# Altium integrated library Linear Technology Power Management Power Control.IntLib: 661 symbols (part 4 of 43)
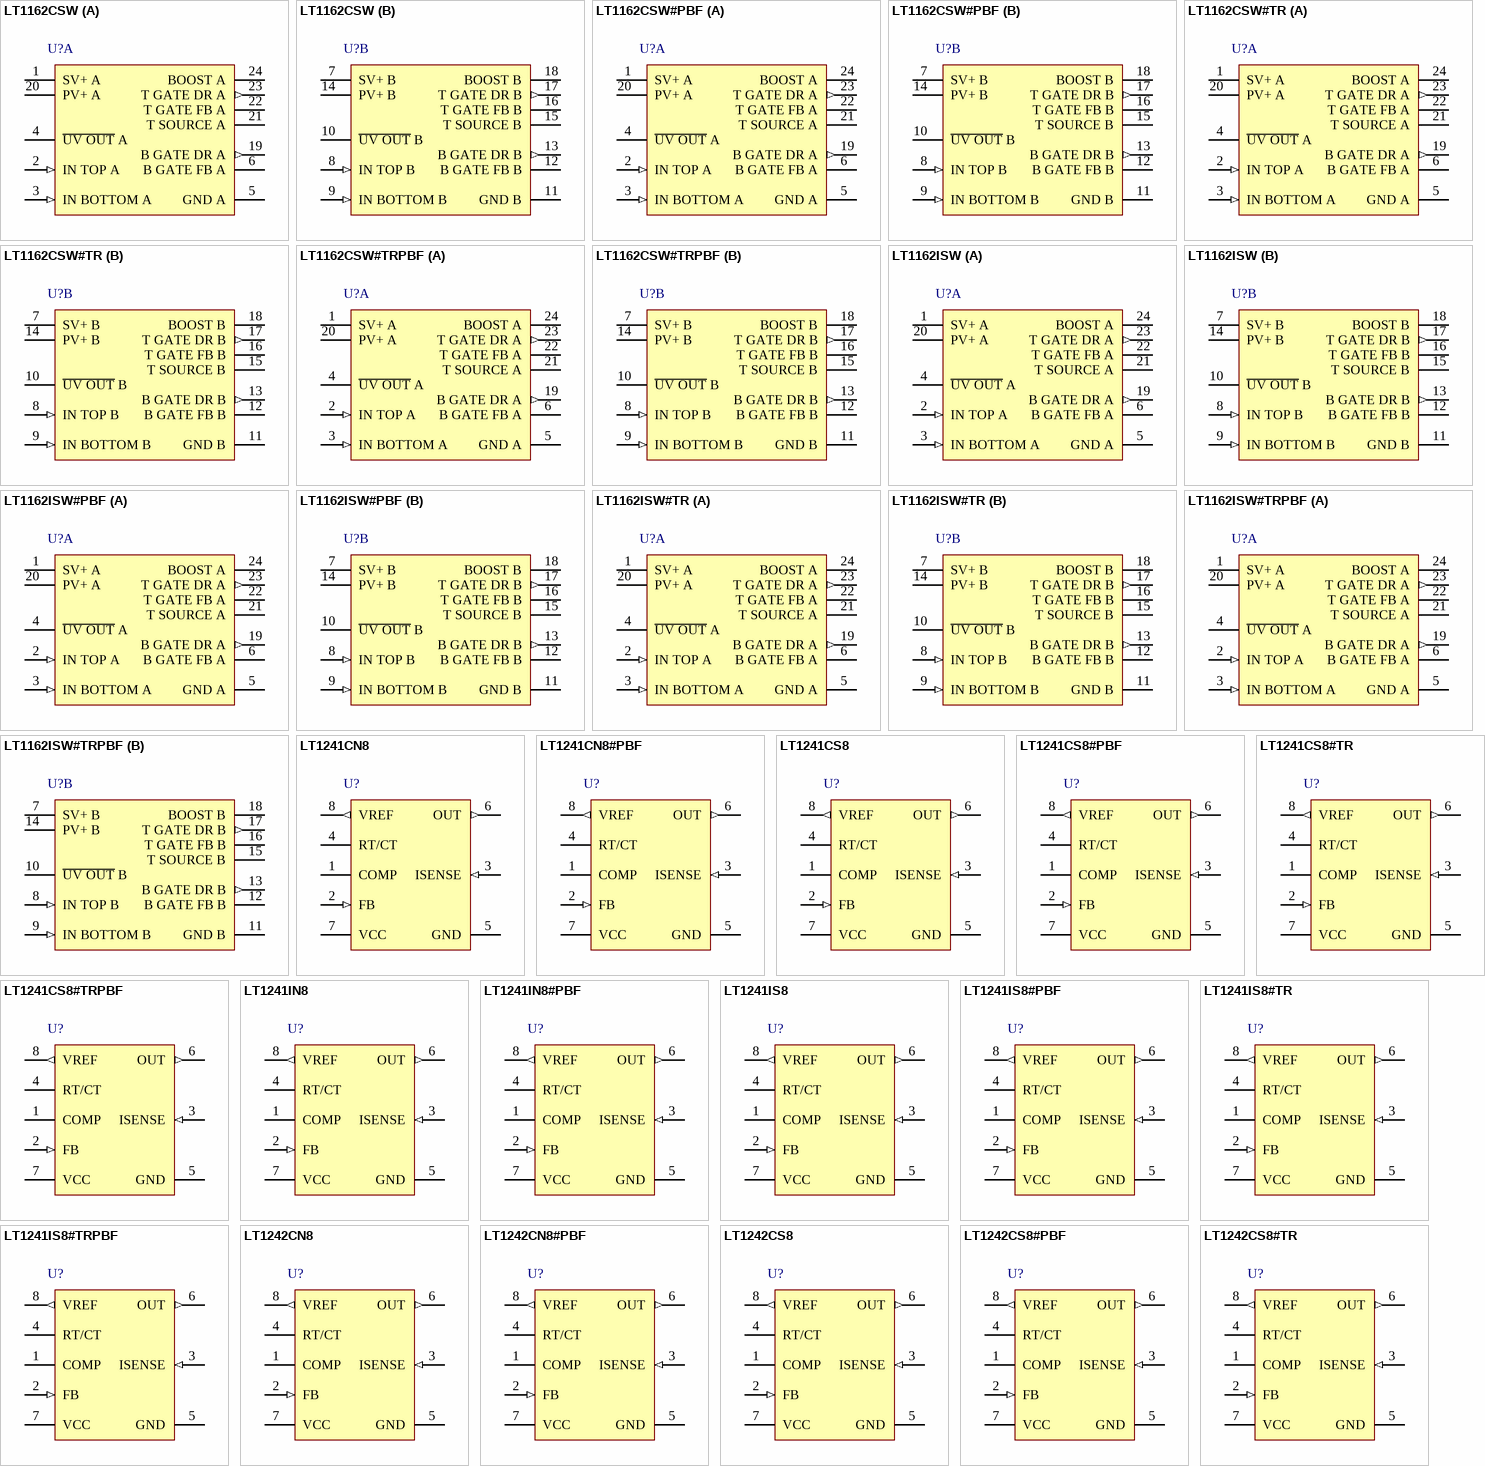
[diagram p22: symbols LT1162CSW to LT1242CS8#TR]

## LT1162ISW#PBF
designator U?
Input UV Lockout, High Side Gate Drive UV Lockout, 8 to 60 V Vin, 24-pin SOIC (SW-24), -40 to 85 degC, Pb-Free; Manufacturer: Linear Technology; PartNumber: LT1162ISW#PBF; DatasheetVersion: Rev. B; PackageVersion: Jun-10; PackageReference: SW-24; PackageDescription: 24-Pin Plastic Small Outline, Body 15.395 x 7.493 mm, Pitch 1.27 mm; Supplier 1: Digi-Key; Supplier Part Number 1: LT1162ISW#PBF-ND; Supplier 2: Newark; Supplier Part Number 2: 57M2281; RoHS: TRUE; Mounting Technology: Surface Mount; ComponentLink1Description: Manufacturer URL; ComponentLink1URL: http://www.linear.com/; ComponentLink2Description: Datasheet; ComponentLink2URL: http://cds.linear.com/docs/en/datasheet/11602fb.pdf; ComponentLink3Description: Package Specification; ComponentLink3URL: http://cds.linear.com/docs/Packaging/SO_24_05-08-1620.pdf
footprint LT-SW-24_N (SOIC, 24-Leads, Body 15.6x7.6mm, Pitch 1.27mm, IPC Medium Density)
footprint LT-SW-24_L (SOIC, 24-Leads, Body 15.6x7.6mm, Pitch 1.27mm, IPC High Density)
footprint LT-SW-24_M (SOIC, 24-Leads, Body 15.6x7.6mm, Pitch 1.27mm, IPC Low Density)
part A pins: 1 SV+ A (power) "Main Signal Supply. Must be closely decoupled to ground Pins 5 and 11.", 2 IN TOP A (in) "Top Driver Input. The Input Top is disabled when the Input Bottom is high. A 3 k input resistor followed by a 5 V internal clamp prevents saturation of the input transistors.", 3 IN BOTTOM A (in) "Bottom Driver Input. The Input Bottom is disabled when the Input Top is high. A 3 k input resistor followed by a 5 V internal clamp prevents satura- tion of the input transistors.", 4 ~{UV OUT} A (oc) "Undervoltage Output. Open collector NPN output which turns on when V+ drops below the undervoltage threshold.", 5 GND A (power) "Ground Connection.", 6 B GATE FB A "Bottom Gate Feedback. Must connect directly to the bottom power MOSFET gate. The top MOSFET turn-on is inhibited until Bottom Gate Feed- back pins have discharged to below 2.5 V.", 19 B GATE DR A (out) "Bottom Gate Drive. The high current drive point for the bottom MOSFET. When a gate resistor is used it is inserted between the Bottom Gate Drive pin and the gate of the MOSFET.", 20 PV+ A (power) "Bottom Driver Supply. Must be con- nected to the same supply as Pins 1 and 7.", 21 T SOURCE A "Top Driver Return. Connects to the top MOSFET source and the low side of the bootstrap capacitor.", 22 T GATE FB A "Top Gate Feedback. Must connect directly to the top power MOSFET gate. The bottom MOSFET turn-on is inhibited until V TGF  - V TSOURCE has discharged to below 2.9 V.", 23 T GATE DR A (out) "Top Gate Drive. The high current drive point for the top MOSFET. When a gate resistor is used it is inserted between the Top Gate Drive pin and the gate of the MOSFET.", 24 BOOST A "Top Driver Supply. Connects to the high side of the bootstrap capacitor."
part B pins: 7 SV+ B (power) "Main Signal Supply. Must be closely decoupled to ground Pins 5 and 11.", 8 IN TOP B (in) "Top Driver Input. The Input Top is disabled when the Input Bottom is high. A 3 k input resistor followed by a 5 V internal clamp prevents saturation of the input transistors.", 9 IN BOTTOM B (in) "Bottom Driver Input. The Input Bottom is disabled when the Input Top is high. A 3 k input resistor followed by a 5 V internal clamp prevents satura- tion of the input transistors.", 10 ~{UV OUT} B (oc) "Undervoltage Output. Open collector NPN output which turns on when V+ drops below the undervoltage threshold.", 11 GND B (power) "Ground Connection.", 12 B GATE FB B "Bottom Gate Feedback. Must connect directly to the bottom power MOSFET gate. The top MOSFET turn-on is inhibited until Bottom Gate Feed- back pins have discharged to below 2.5 V.", 13 B GATE DR B (out) "Bottom Gate Drive. The high current drive point for the bottom MOSFET. When a gate resistor is used it is inserted between the Bottom Gate Drive pin and the gate of the MOSFET.", 14 PV+ B (power) "Bottom Driver Supply. Must be con- nected to the same supply as Pins 1 and 7.", 15 T SOURCE B "Top Driver Return. Connects to the top MOSFET source and the low side of the bootstrap capacitor.", 16 T GATE FB B "Top Gate Feedback. Must connect directly to the top power MOSFET gate. The bottom MOSFET turn-on is inhibited until V TGF  - V TSOURCE has discharged to below 2.9 V.", 17 T GATE DR B (out) "Top Gate Drive. The high current drive point for the top MOSFET. When a gate resistor is used it is inserted between the Top Gate Drive pin and the gate of the MOSFET.", 18 BOOST B "Top Driver Supply. Connects to the high side of the bootstrap capacitor."

## LT1162ISW#TR
designator U?
Input UV Lockout, High Side Gate Drive UV Lockout, 8 to 60 V Vin, 24-pin SOIC (SW-24), -40 to 85 degC, Tape and Reel; Manufacturer: Linear Technology; PartNumber: LT1162ISW#TR; DatasheetVersion: Rev. B; PackageVersion: Jun-10; PackageReference: SW-24; PackageDescription: 24-Pin Plastic Small Outline, Body 15.395 x 7.493 mm, Pitch 1.27 mm; Supplier 1: Digi-Key; Supplier Part Number 1: LT1162ISW#TR-ND; Packing: Tape and Reel; RoHS: FALSE; Mounting Technology: Surface Mount; ComponentLink1Description: Manufacturer URL; ComponentLink1URL: http://www.linear.com/; ComponentLink2Description: Datasheet; ComponentLink2URL: http://cds.linear.com/docs/en/datasheet/11602fb.pdf; ComponentLink3Description: Package Specification; ComponentLink3URL: http://cds.linear.com/docs/Packaging/SO_24_05-08-1620.pdf
footprint LT-SW-24_N (SOIC, 24-Leads, Body 15.6x7.6mm, Pitch 1.27mm, IPC Medium Density)
footprint LT-SW-24_L (SOIC, 24-Leads, Body 15.6x7.6mm, Pitch 1.27mm, IPC High Density)
footprint LT-SW-24_M (SOIC, 24-Leads, Body 15.6x7.6mm, Pitch 1.27mm, IPC Low Density)
part A pins: 1 SV+ A (power) "Main Signal Supply. Must be closely decoupled to ground Pins 5 and 11.", 2 IN TOP A (in) "Top Driver Input. The Input Top is disabled when the Input Bottom is high. A 3 k input resistor followed by a 5 V internal clamp prevents saturation of the input transistors.", 3 IN BOTTOM A (in) "Bottom Driver Input. The Input Bottom is disabled when the Input Top is high. A 3 k input resistor followed by a 5 V internal clamp prevents satura- tion of the input transistors.", 4 ~{UV OUT} A (oc) "Undervoltage Output. Open collector NPN output which turns on when V+ drops below the undervoltage threshold.", 5 GND A (power) "Ground Connection.", 6 B GATE FB A "Bottom Gate Feedback. Must connect directly to the bottom power MOSFET gate. The top MOSFET turn-on is inhibited until Bottom Gate Feed- back pins have discharged to below 2.5 V.", 19 B GATE DR A (out) "Bottom Gate Drive. The high current drive point for the bottom MOSFET. When a gate resistor is used it is inserted between the Bottom Gate Drive pin and the gate of the MOSFET.", 20 PV+ A (power) "Bottom Driver Supply. Must be con- nected to the same supply as Pins 1 and 7.", 21 T SOURCE A "Top Driver Return. Connects to the top MOSFET source and the low side of the bootstrap capacitor.", 22 T GATE FB A "Top Gate Feedback. Must connect directly to the top power MOSFET gate. The bottom MOSFET turn-on is inhibited until V TGF  - V TSOURCE has discharged to below 2.9 V.", 23 T GATE DR A (out) "Top Gate Drive. The high current drive point for the top MOSFET. When a gate resistor is used it is inserted between the Top Gate Drive pin and the gate of the MOSFET.", 24 BOOST A "Top Driver Supply. Connects to the high side of the bootstrap capacitor."
part B pins: 7 SV+ B (power) "Main Signal Supply. Must be closely decoupled to ground Pins 5 and 11.", 8 IN TOP B (in) "Top Driver Input. The Input Top is disabled when the Input Bottom is high. A 3 k input resistor followed by a 5 V internal clamp prevents saturation of the input transistors.", 9 IN BOTTOM B (in) "Bottom Driver Input. The Input Bottom is disabled when the Input Top is high. A 3 k input resistor followed by a 5 V internal clamp prevents satura- tion of the input transistors.", 10 ~{UV OUT} B (oc) "Undervoltage Output. Open collector NPN output which turns on when V+ drops below the undervoltage threshold.", 11 GND B (power) "Ground Connection.", 12 B GATE FB B "Bottom Gate Feedback. Must connect directly to the bottom power MOSFET gate. The top MOSFET turn-on is inhibited until Bottom Gate Feed- back pins have discharged to below 2.5 V.", 13 B GATE DR B (out) "Bottom Gate Drive. The high current drive point for the bottom MOSFET. When a gate resistor is used it is inserted between the Bottom Gate Drive pin and the gate of the MOSFET.", 14 PV+ B (power) "Bottom Driver Supply. Must be con- nected to the same supply as Pins 1 and 7.", 15 T SOURCE B "Top Driver Return. Connects to the top MOSFET source and the low side of the bootstrap capacitor.", 16 T GATE FB B "Top Gate Feedback. Must connect directly to the top power MOSFET gate. The bottom MOSFET turn-on is inhibited until V TGF  - V TSOURCE has discharged to below 2.9 V.", 17 T GATE DR B (out) "Top Gate Drive. The high current drive point for the top MOSFET. When a gate resistor is used it is inserted between the Top Gate Drive pin and the gate of the MOSFET.", 18 BOOST B "Top Driver Supply. Connects to the high side of the bootstrap capacitor."

## LT1162ISW#TRPBF
designator U?
Input UV Lockout, High Side Gate Drive UV Lockout, 8 to 60 V Vin, 24-pin SOIC (SW-24), -40 to 85 degC, Pb-Free, Tape and Reel; Manufacturer: Linear Technology; PartNumber: LT1162ISW#TRPBF; DatasheetVersion: Rev. B; PackageVersion: Jun-10; PackageReference: SW-24; PackageDescription: 24-Pin Plastic Small Outline, Body 15.395 x 7.493 mm, Pitch 1.27 mm; Supplier 1: Digi-Key; Supplier Part Number 1: LT1162ISW#TRPBF-ND; Supplier 2: Newark; Supplier Part Number 2: 57M2283; Packing: Tape and Reel; RoHS: TRUE; Mounting Technology: Surface Mount; ComponentLink1Description: Manufacturer URL; ComponentLink1URL: http://www.linear.com/; ComponentLink2Description: Datasheet; ComponentLink2URL: http://cds.linear.com/docs/en/datasheet/11602fb.pdf; ComponentLink3Description: Package Specification; ComponentLink3URL: http://cds.linear.com/docs/Packaging/SO_24_05-08-1620.pdf
footprint LT-SW-24_N (SOIC, 24-Leads, Body 15.6x7.6mm, Pitch 1.27mm, IPC Medium Density)
footprint LT-SW-24_L (SOIC, 24-Leads, Body 15.6x7.6mm, Pitch 1.27mm, IPC High Density)
footprint LT-SW-24_M (SOIC, 24-Leads, Body 15.6x7.6mm, Pitch 1.27mm, IPC Low Density)
part A pins: 1 SV+ A (power) "Main Signal Supply. Must be closely decoupled to ground Pins 5 and 11.", 2 IN TOP A (in) "Top Driver Input. The Input Top is disabled when the Input Bottom is high. A 3 k input resistor followed by a 5 V internal clamp prevents saturation of the input transistors.", 3 IN BOTTOM A (in) "Bottom Driver Input. The Input Bottom is disabled when the Input Top is high. A 3 k input resistor followed by a 5 V internal clamp prevents satura- tion of the input transistors.", 4 ~{UV OUT} A (oc) "Undervoltage Output. Open collector NPN output which turns on when V+ drops below the undervoltage threshold.", 5 GND A (power) "Ground Connection.", 6 B GATE FB A "Bottom Gate Feedback. Must connect directly to the bottom power MOSFET gate. The top MOSFET turn-on is inhibited until Bottom Gate Feed- back pins have discharged to below 2.5 V.", 19 B GATE DR A (out) "Bottom Gate Drive. The high current drive point for the bottom MOSFET. When a gate resistor is used it is inserted between the Bottom Gate Drive pin and the gate of the MOSFET.", 20 PV+ A (power) "Bottom Driver Supply. Must be con- nected to the same supply as Pins 1 and 7.", 21 T SOURCE A "Top Driver Return. Connects to the top MOSFET source and the low side of the bootstrap capacitor.", 22 T GATE FB A "Top Gate Feedback. Must connect directly to the top power MOSFET gate. The bottom MOSFET turn-on is inhibited until V TGF  - V TSOURCE has discharged to below 2.9 V.", 23 T GATE DR A (out) "Top Gate Drive. The high current drive point for the top MOSFET. When a gate resistor is used it is inserted between the Top Gate Drive pin and the gate of the MOSFET.", 24 BOOST A "Top Driver Supply. Connects to the high side of the bootstrap capacitor."
part B pins: 7 SV+ B (power) "Main Signal Supply. Must be closely decoupled to ground Pins 5 and 11.", 8 IN TOP B (in) "Top Driver Input. The Input Top is disabled when the Input Bottom is high. A 3 k input resistor followed by a 5 V internal clamp prevents saturation of the input transistors.", 9 IN BOTTOM B (in) "Bottom Driver Input. The Input Bottom is disabled when the Input Top is high. A 3 k input resistor followed by a 5 V internal clamp prevents satura- tion of the input transistors.", 10 ~{UV OUT} B (oc) "Undervoltage Output. Open collector NPN output which turns on when V+ drops below the undervoltage threshold.", 11 GND B (power) "Ground Connection.", 12 B GATE FB B "Bottom Gate Feedback. Must connect directly to the bottom power MOSFET gate. The top MOSFET turn-on is inhibited until Bottom Gate Feed- back pins have discharged to below 2.5 V.", 13 B GATE DR B (out) "Bottom Gate Drive. The high current drive point for the bottom MOSFET. When a gate resistor is used it is inserted between the Bottom Gate Drive pin and the gate of the MOSFET.", 14 PV+ B (power) "Bottom Driver Supply. Must be con- nected to the same supply as Pins 1 and 7.", 15 T SOURCE B "Top Driver Return. Connects to the top MOSFET source and the low side of the bootstrap capacitor.", 16 T GATE FB B "Top Gate Feedback. Must connect directly to the top power MOSFET gate. The bottom MOSFET turn-on is inhibited until V TGF  - V TSOURCE has discharged to below 2.9 V.", 17 T GATE DR B (out) "Top Gate Drive. The high current drive point for the top MOSFET. When a gate resistor is used it is inserted between the Top Gate Drive pin and the gate of the MOSFET.", 18 BOOST B "Top Driver Supply. Connects to the high side of the bootstrap capacitor."

## LT1241CN8
designator U?
High Speed Current Mode Pulse Width Modulator, 8-pin DIP (N8-8), 0 to 100 degC; Manufacturer: Linear Technology; PartNumber: LT1241CN8; DatasheetVersion: Rev. A; PackageVersion: Rev. I, 07/2011; PackageReference: N8-8; PackageDescription: 8-Pin PDIP, Body 10.16 x 6.48 mm, Pitch 2.54 mm; Supplier 1: Digi-Key; Supplier Part Number 1: LT1241CN8-ND; RoHS: FALSE; Mounting Technology: Through Hole; ComponentLink1Description: Manufacturer URL; ComponentLink1URL: http://www.linear.com/; ComponentLink2Description: Datasheet; ComponentLink2URL: http://cds.linear.com/docs/en/datasheet/1241fa.pdf; ComponentLink3Description: Package Specification; ComponentLink3URL: http://www.linear.com/docs/en/packaging/05081510_I_N8.pdf
footprint LT-N8-8 (DIP, 8-Leads, Body 10.15x6.85mm, Pitch 2.54mm)
pins: 1 COMP "Compensation Pin. This pin is the output of the Error Amplifier and is made available for loop compensation. It can also be used to adjust the maximum value of the current sense clamp voltage to less than 1V. This pin can (See Datasheet)", 2 FB (in) "Voltage Feedback. This pin is the inverting input of the Error Amplifier. The output voltage is normally fed back to this pin through a resistive divider. The noninverting input of the Error Amplifier is internally committed (See Datasheet)", 3 ISENSE (in) "Current Sense. This is the input to the current sense comparator. The trip point of the comparator is set by, and is proportional to, the output voltage of the Error Amplifier.", 4 RT/CT "The oscillator frequency and the deadtime are set by connecting a resistor (RT) from VREF to RT/CT and a capacitor (CT) from RT/CT to GND. The rise time of the oscillator waveform is set by the RC time constant of RT and CT. (See Datasheet)", 5 GND (power) "Ground.", 6 OUT (out) "Current Output. This pin is the output of a high current totem pole output stage. It is capable of driving up to +/-1A of current into a capacitive load such as the gate of a MOSFET.", 7 VCC (power) "Supply Voltage. This pin is the positive supply of the control IC.", 8 VREF (out) "Reference. This is the reference output of the IC. The reference output is used to supply charging current to the external timing resistor RT. The reference provides biasing to a large portion of the internal circuitry, and (See Datasheet)"

## LT1241CN8#PBF
designator U?
High Speed Current Mode Pulse Width Modulator, 8-pin DIP (N8-8), 0 to 100 degC, Pb-Free; Manufacturer: Linear Technology; PartNumber: LT1241CN8#PBF; DatasheetVersion: Rev. A; PackageVersion: Rev. I, 07/2011; PackageReference: N8-8; PackageDescription: 8-Pin PDIP, Body 10.16 x 6.48 mm, Pitch 2.54 mm; Supplier 1: Digi-Key; Supplier Part Number 1: LT1241CN8#PBF-ND; RoHS: TRUE; Mounting Technology: Through Hole; ComponentLink1Description: Manufacturer URL; ComponentLink1URL: http://www.linear.com/; ComponentLink2Description: Datasheet; ComponentLink2URL: http://cds.linear.com/docs/en/datasheet/1241fa.pdf; ComponentLink3Description: Package Specification; ComponentLink3URL: http://www.linear.com/docs/en/packaging/05081510_I_N8.pdf
footprint LT-N8-8 (DIP, 8-Leads, Body 10.15x6.85mm, Pitch 2.54mm)
pins: 1 COMP "Compensation Pin. This pin is the output of the Error Amplifier and is made available for loop compensation. It can also be used to adjust the maximum value of the current sense clamp voltage to less than 1V. This pin can (See Datasheet)", 2 FB (in) "Voltage Feedback. This pin is the inverting input of the Error Amplifier. The output voltage is normally fed back to this pin through a resistive divider. The noninverting input of the Error Amplifier is internally committed (See Datasheet)", 3 ISENSE (in) "Current Sense. This is the input to the current sense comparator. The trip point of the comparator is set by, and is proportional to, the output voltage of the Error Amplifier.", 4 RT/CT "The oscillator frequency and the deadtime are set by connecting a resistor (RT) from VREF to RT/CT and a capacitor (CT) from RT/CT to GND. The rise time of the oscillator waveform is set by the RC time constant of RT and CT. (See Datasheet)", 5 GND (power) "Ground.", 6 OUT (out) "Current Output. This pin is the output of a high current totem pole output stage. It is capable of driving up to +/-1A of current into a capacitive load such as the gate of a MOSFET.", 7 VCC (power) "Supply Voltage. This pin is the positive supply of the control IC.", 8 VREF (out) "Reference. This is the reference output of the IC. The reference output is used to supply charging current to the external timing resistor RT. The reference provides biasing to a large portion of the internal circuitry, and (See Datasheet)"

## LT1241CS8
designator U?
High Speed Current Mode Pulse Width Modulator, 8-pin SOIC (S8-8), 0 to 100 degC; Manufacturer: Linear Technology; PartNumber: LT1241CS8; DatasheetVersion: Rev. A; PackageVersion: Rev. G, 03/2012; PackageReference: S8-8; PackageDescription: 8-Pin Plastic Small Outline (Narrow .150 Inch), Body 4.9 x 3.9 mm, Pitch 1.27 mm; Supplier 1: Digi-Key; Supplier Part Number 1: LT1241CS8-ND; RoHS: FALSE; Mounting Technology: Surface Mount; ComponentLink1Description: Manufacturer URL; ComponentLink1URL: http://www.linear.com/; ComponentLink2Description: Datasheet; ComponentLink2URL: http://cds.linear.com/docs/en/datasheet/1241fa.pdf; ComponentLink3Description: Package Specification; ComponentLink3URL: http://cds.linear.com/docs/en/packaging/05081610_G_SO8.pdf
footprint LT-S8-8_N (SOIC, 8-Leads, Body 5x4mm, Pitch 1.27mm, IPC Medium Density)
footprint LT-S8-8_L (SOIC, 8-Leads, Body 5x4mm, Pitch 1.27mm, IPC High Density)
footprint LT-S8-8_M (SOIC, 8-Leads, Body 5x4mm, Pitch 1.27mm, IPC Low Density)
pins: 1 COMP "Compensation Pin. This pin is the output of the Error Amplifier and is made available for loop compensation. It can also be used to adjust the maximum value of the current sense clamp voltage to less than 1V. This pin can (See Datasheet)", 2 FB (in) "Voltage Feedback. This pin is the inverting input of the Error Amplifier. The output voltage is normally fed back to this pin through a resistive divider. The noninverting input of the Error Amplifier is internally committed (See Datasheet)", 3 ISENSE (in) "Current Sense. This is the input to the current sense comparator. The trip point of the comparator is set by, and is proportional to, the output voltage of the Error Amplifier.", 4 RT/CT "The oscillator frequency and the deadtime are set by connecting a resistor (RT) from VREF to RT/CT and a capacitor (CT) from RT/CT to GND. The rise time of the oscillator waveform is set by the RC time constant of RT and CT. (See Datasheet)", 5 GND (power) "Ground.", 6 OUT (out) "Current Output. This pin is the output of a high current totem pole output stage. It is capable of driving up to +/-1A of current into a capacitive load such as the gate of a MOSFET.", 7 VCC (power) "Supply Voltage. This pin is the positive supply of the control IC.", 8 VREF (out) "Reference. This is the reference output of the IC. The reference output is used to supply charging current to the external timing resistor RT. The reference provides biasing to a large portion of the internal circuitry, and (See Datasheet)"

## LT1241CS8#PBF
designator U?
High Speed Current Mode Pulse Width Modulator, 8-pin SOIC (S8-8), 0 to 100 degC, Pb-Free; Manufacturer: Linear Technology; PartNumber: LT1241CS8#PBF; DatasheetVersion: Rev. A; PackageVersion: Rev. G, 03/2012; PackageReference: S8-8; PackageDescription: 8-Pin Plastic Small Outline (Narrow .150 Inch), Body 4.9 x 3.9 mm, Pitch 1.27 mm; Supplier 1: Digi-Key; Supplier Part Number 1: LT1241CS8#PBF-ND; Supplier 2: Farnell; Supplier Part Number 2: 1273691; RoHS: TRUE; Mounting Technology: Surface Mount; ComponentLink1Description: Manufacturer URL; ComponentLink1URL: http://www.linear.com/; ComponentLink2Description: Datasheet; ComponentLink2URL: http://cds.linear.com/docs/en/datasheet/1241fa.pdf; ComponentLink3Description: Package Specification; ComponentLink3URL: http://cds.linear.com/docs/en/packaging/05081610_G_SO8.pdf
footprint LT-S8-8_N (SOIC, 8-Leads, Body 5x4mm, Pitch 1.27mm, IPC Medium Density)
footprint LT-S8-8_L (SOIC, 8-Leads, Body 5x4mm, Pitch 1.27mm, IPC High Density)
footprint LT-S8-8_M (SOIC, 8-Leads, Body 5x4mm, Pitch 1.27mm, IPC Low Density)
pins: 1 COMP "Compensation Pin. This pin is the output of the Error Amplifier and is made available for loop compensation. It can also be used to adjust the maximum value of the current sense clamp voltage to less than 1V. This pin can (See Datasheet)", 2 FB (in) "Voltage Feedback. This pin is the inverting input of the Error Amplifier. The output voltage is normally fed back to this pin through a resistive divider. The noninverting input of the Error Amplifier is internally committed (See Datasheet)", 3 ISENSE (in) "Current Sense. This is the input to the current sense comparator. The trip point of the comparator is set by, and is proportional to, the output voltage of the Error Amplifier.", 4 RT/CT "The oscillator frequency and the deadtime are set by connecting a resistor (RT) from VREF to RT/CT and a capacitor (CT) from RT/CT to GND. The rise time of the oscillator waveform is set by the RC time constant of RT and CT. (See Datasheet)", 5 GND (power) "Ground.", 6 OUT (out) "Current Output. This pin is the output of a high current totem pole output stage. It is capable of driving up to +/-1A of current into a capacitive load such as the gate of a MOSFET.", 7 VCC (power) "Supply Voltage. This pin is the positive supply of the control IC.", 8 VREF (out) "Reference. This is the reference output of the IC. The reference output is used to supply charging current to the external timing resistor RT. The reference provides biasing to a large portion of the internal circuitry, and (See Datasheet)"

## LT1241CS8#TR
designator U?
High Speed Current Mode Pulse Width Modulator, 8-pin SOIC (S8-8), 0 to 100 degC, Tape and Reel; Manufacturer: Linear Technology; PartNumber: LT1241CS8#TR; DatasheetVersion: Rev. A; PackageVersion: Rev. G, 03/2012; PackageReference: S8-8; PackageDescription: 8-Pin Plastic Small Outline (Narrow .150 Inch), Body 4.9 x 3.9 mm, Pitch 1.27 mm; Supplier 1: Digi-Key; Supplier Part Number 1: LT1241CS8#TR-ND; Packing: Tape and Reel; RoHS: FALSE; Mounting Technology: Surface Mount; ComponentLink1Description: Manufacturer URL; ComponentLink1URL: http://www.linear.com/; ComponentLink2Description: Datasheet; ComponentLink2URL: http://cds.linear.com/docs/en/datasheet/1241fa.pdf; ComponentLink3Description: Package Specification; ComponentLink3URL: http://cds.linear.com/docs/en/packaging/05081610_G_SO8.pdf
footprint LT-S8-8_N (SOIC, 8-Leads, Body 5x4mm, Pitch 1.27mm, IPC Medium Density)
footprint LT-S8-8_L (SOIC, 8-Leads, Body 5x4mm, Pitch 1.27mm, IPC High Density)
footprint LT-S8-8_M (SOIC, 8-Leads, Body 5x4mm, Pitch 1.27mm, IPC Low Density)
pins: 1 COMP "Compensation Pin. This pin is the output of the Error Amplifier and is made available for loop compensation. It can also be used to adjust the maximum value of the current sense clamp voltage to less than 1V. This pin can (See Datasheet)", 2 FB (in) "Voltage Feedback. This pin is the inverting input of the Error Amplifier. The output voltage is normally fed back to this pin through a resistive divider. The noninverting input of the Error Amplifier is internally committed (See Datasheet)", 3 ISENSE (in) "Current Sense. This is the input to the current sense comparator. The trip point of the comparator is set by, and is proportional to, the output voltage of the Error Amplifier.", 4 RT/CT "The oscillator frequency and the deadtime are set by connecting a resistor (RT) from VREF to RT/CT and a capacitor (CT) from RT/CT to GND. The rise time of the oscillator waveform is set by the RC time constant of RT and CT. (See Datasheet)", 5 GND (power) "Ground.", 6 OUT (out) "Current Output. This pin is the output of a high current totem pole output stage. It is capable of driving up to +/-1A of current into a capacitive load such as the gate of a MOSFET.", 7 VCC (power) "Supply Voltage. This pin is the positive supply of the control IC.", 8 VREF (out) "Reference. This is the reference output of the IC. The reference output is used to supply charging current to the external timing resistor RT. The reference provides biasing to a large portion of the internal circuitry, and (See Datasheet)"

## LT1241CS8#TRPBF
designator U?
High Speed Current Mode Pulse Width Modulator, 8-pin SOIC (S8-8), 0 to 100 degC, Pb-Free, Tape and Reel; Manufacturer: Linear Technology; PartNumber: LT1241CS8#TRPBF; DatasheetVersion: Rev. A; PackageVersion: Rev. G, 03/2012; PackageReference: S8-8; PackageDescription: 8-Pin Plastic Small Outline (Narrow .150 Inch), Body 4.9 x 3.9 mm, Pitch 1.27 mm; Supplier 1: Digi-Key; Supplier Part Number 1: LT1241CS8#TRPBF-ND; Packing: Tape and Reel; RoHS: TRUE; Mounting Technology: Surface Mount; ComponentLink1Description: Manufacturer URL; ComponentLink1URL: http://www.linear.com/; ComponentLink2Description: Datasheet; ComponentLink2URL: http://cds.linear.com/docs/en/datasheet/1241fa.pdf; ComponentLink3Description: Package Specification; ComponentLink3URL: http://cds.linear.com/docs/en/packaging/05081610_G_SO8.pdf
footprint LT-S8-8_N (SOIC, 8-Leads, Body 5x4mm, Pitch 1.27mm, IPC Medium Density)
footprint LT-S8-8_L (SOIC, 8-Leads, Body 5x4mm, Pitch 1.27mm, IPC High Density)
footprint LT-S8-8_M (SOIC, 8-Leads, Body 5x4mm, Pitch 1.27mm, IPC Low Density)
pins: 1 COMP "Compensation Pin. This pin is the output of the Error Amplifier and is made available for loop compensation. It can also be used to adjust the maximum value of the current sense clamp voltage to less than 1V. This pin can (See Datasheet)", 2 FB (in) "Voltage Feedback. This pin is the inverting input of the Error Amplifier. The output voltage is normally fed back to this pin through a resistive divider. The noninverting input of the Error Amplifier is internally committed (See Datasheet)", 3 ISENSE (in) "Current Sense. This is the input to the current sense comparator. The trip point of the comparator is set by, and is proportional to, the output voltage of the Error Amplifier.", 4 RT/CT "The oscillator frequency and the deadtime are set by connecting a resistor (RT) from VREF to RT/CT and a capacitor (CT) from RT/CT to GND. The rise time of the oscillator waveform is set by the RC time constant of RT and CT. (See Datasheet)", 5 GND (power) "Ground.", 6 OUT (out) "Current Output. This pin is the output of a high current totem pole output stage. It is capable of driving up to +/-1A of current into a capacitive load such as the gate of a MOSFET.", 7 VCC (power) "Supply Voltage. This pin is the positive supply of the control IC.", 8 VREF (out) "Reference. This is the reference output of the IC. The reference output is used to supply charging current to the external timing resistor RT. The reference provides biasing to a large portion of the internal circuitry, and (See Datasheet)"

## LT1241IN8
designator U?
High Speed Current Mode Pulse Width Modulator, 8-pin DIP (N8-8), -40 to 100 degC; Manufacturer: Linear Technology; PartNumber: LT1241IN8; DatasheetVersion: Rev. A; PackageVersion: Rev. I, 07/2011; PackageReference: N8-8; PackageDescription: 8-Pin PDIP, Body 10.16 x 6.48 mm, Pitch 2.54 mm; Supplier 1: Digi-Key; Supplier Part Number 1: LT1241IN8-ND; RoHS: FALSE; Mounting Technology: Through Hole; ComponentLink1Description: Manufacturer URL; ComponentLink1URL: http://www.linear.com/; ComponentLink2Description: Datasheet; ComponentLink2URL: http://cds.linear.com/docs/en/datasheet/1241fa.pdf; ComponentLink3Description: Package Specification; ComponentLink3URL: http://www.linear.com/docs/en/packaging/05081510_I_N8.pdf
footprint LT-N8-8 (DIP, 8-Leads, Body 10.15x6.85mm, Pitch 2.54mm)
pins: 1 COMP "Compensation Pin. This pin is the output of the Error Amplifier and is made available for loop compensation. It can also be used to adjust the maximum value of the current sense clamp voltage to less than 1V. This pin can (See Datasheet)", 2 FB (in) "Voltage Feedback. This pin is the inverting input of the Error Amplifier. The output voltage is normally fed back to this pin through a resistive divider. The noninverting input of the Error Amplifier is internally committed (See Datasheet)", 3 ISENSE (in) "Current Sense. This is the input to the current sense comparator. The trip point of the comparator is set by, and is proportional to, the output voltage of the Error Amplifier.", 4 RT/CT "The oscillator frequency and the deadtime are set by connecting a resistor (RT) from VREF to RT/CT and a capacitor (CT) from RT/CT to GND. The rise time of the oscillator waveform is set by the RC time constant of RT and CT. (See Datasheet)", 5 GND (power) "Ground.", 6 OUT (out) "Current Output. This pin is the output of a high current totem pole output stage. It is capable of driving up to +/-1A of current into a capacitive load such as the gate of a MOSFET.", 7 VCC (power) "Supply Voltage. This pin is the positive supply of the control IC.", 8 VREF (out) "Reference. This is the reference output of the IC. The reference output is used to supply charging current to the external timing resistor RT. The reference provides biasing to a large portion of the internal circuitry, and (See Datasheet)"

## LT1241IN8#PBF
designator U?
High Speed Current Mode Pulse Width Modulator, 8-pin DIP (N8-8), -40 to 100 degC, Pb-Free; Manufacturer: Linear Technology; PartNumber: LT1241IN8#PBF; DatasheetVersion: Rev. A; PackageVersion: Rev. I, 07/2011; PackageReference: N8-8; PackageDescription: 8-Pin PDIP, Body 10.16 x 6.48 mm, Pitch 2.54 mm; Supplier 1: Digi-Key; Supplier Part Number 1: LT1241IN8#PBF-ND; RoHS: TRUE; Mounting Technology: Through Hole; ComponentLink1Description: Manufacturer URL; ComponentLink1URL: http://www.linear.com/; ComponentLink2Description: Datasheet; ComponentLink2URL: http://cds.linear.com/docs/en/datasheet/1241fa.pdf; ComponentLink3Description: Package Specification; ComponentLink3URL: http://www.linear.com/docs/en/packaging/05081510_I_N8.pdf
footprint LT-N8-8 (DIP, 8-Leads, Body 10.15x6.85mm, Pitch 2.54mm)
pins: 1 COMP "Compensation Pin. This pin is the output of the Error Amplifier and is made available for loop compensation. It can also be used to adjust the maximum value of the current sense clamp voltage to less than 1V. This pin can (See Datasheet)", 2 FB (in) "Voltage Feedback. This pin is the inverting input of the Error Amplifier. The output voltage is normally fed back to this pin through a resistive divider. The noninverting input of the Error Amplifier is internally committed (See Datasheet)", 3 ISENSE (in) "Current Sense. This is the input to the current sense comparator. The trip point of the comparator is set by, and is proportional to, the output voltage of the Error Amplifier.", 4 RT/CT "The oscillator frequency and the deadtime are set by connecting a resistor (RT) from VREF to RT/CT and a capacitor (CT) from RT/CT to GND. The rise time of the oscillator waveform is set by the RC time constant of RT and CT. (See Datasheet)", 5 GND (power) "Ground.", 6 OUT (out) "Current Output. This pin is the output of a high current totem pole output stage. It is capable of driving up to +/-1A of current into a capacitive load such as the gate of a MOSFET.", 7 VCC (power) "Supply Voltage. This pin is the positive supply of the control IC.", 8 VREF (out) "Reference. This is the reference output of the IC. The reference output is used to supply charging current to the external timing resistor RT. The reference provides biasing to a large portion of the internal circuitry, and (See Datasheet)"

## LT1241IS8
designator U?
High Speed Current Mode Pulse Width Modulator, 8-pin SOIC (S8-8), -40 to 100 degC; Manufacturer: Linear Technology; PartNumber: LT1241IS8; DatasheetVersion: Rev. A; PackageVersion: Rev. G, 03/2012; PackageReference: S8-8; PackageDescription: 8-Pin Plastic Small Outline (Narrow .150 Inch), Body 4.9 x 3.9 mm, Pitch 1.27 mm; Supplier 1: Digi-Key; Supplier Part Number 1: LT1241IS8-ND; Supplier 2: Newark; Supplier Part Number 2: 57M2949; RoHS: FALSE; Mounting Technology: Surface Mount; ComponentLink1Description: Manufacturer URL; ComponentLink1URL: http://www.linear.com/; ComponentLink2Description: Datasheet; ComponentLink2URL: http://cds.linear.com/docs/en/datasheet/1241fa.pdf; ComponentLink3Description: Package Specification; ComponentLink3URL: http://cds.linear.com/docs/en/packaging/05081610_G_SO8.pdf
footprint LT-S8-8_N (SOIC, 8-Leads, Body 5x4mm, Pitch 1.27mm, IPC Medium Density)
footprint LT-S8-8_L (SOIC, 8-Leads, Body 5x4mm, Pitch 1.27mm, IPC High Density)
footprint LT-S8-8_M (SOIC, 8-Leads, Body 5x4mm, Pitch 1.27mm, IPC Low Density)
pins: 1 COMP "Compensation Pin. This pin is the output of the Error Amplifier and is made available for loop compensation. It can also be used to adjust the maximum value of the current sense clamp voltage to less than 1V. This pin can (See Datasheet)", 2 FB (in) "Voltage Feedback. This pin is the inverting input of the Error Amplifier. The output voltage is normally fed back to this pin through a resistive divider. The noninverting input of the Error Amplifier is internally committed (See Datasheet)", 3 ISENSE (in) "Current Sense. This is the input to the current sense comparator. The trip point of the comparator is set by, and is proportional to, the output voltage of the Error Amplifier.", 4 RT/CT "The oscillator frequency and the deadtime are set by connecting a resistor (RT) from VREF to RT/CT and a capacitor (CT) from RT/CT to GND. The rise time of the oscillator waveform is set by the RC time constant of RT and CT. (See Datasheet)", 5 GND (power) "Ground.", 6 OUT (out) "Current Output. This pin is the output of a high current totem pole output stage. It is capable of driving up to +/-1A of current into a capacitive load such as the gate of a MOSFET.", 7 VCC (power) "Supply Voltage. This pin is the positive supply of the control IC.", 8 VREF (out) "Reference. This is the reference output of the IC. The reference output is used to supply charging current to the external timing resistor RT. The reference provides biasing to a large portion of the internal circuitry, and (See Datasheet)"

## LT1241IS8#PBF
designator U?
High Speed Current Mode Pulse Width Modulator, 8-pin SOIC (S8-8), -40 to 100 degC, Pb-Free; Manufacturer: Linear Technology; PartNumber: LT1241IS8#PBF; DatasheetVersion: Rev. A; PackageVersion: Rev. G, 03/2012; PackageReference: S8-8; PackageDescription: 8-Pin Plastic Small Outline (Narrow .150 Inch), Body 4.9 x 3.9 mm, Pitch 1.27 mm; Supplier 1: Digi-Key; Supplier Part Number 1: LT1241IS8#PBF-ND; Supplier 2: Newark; Supplier Part Number 2: 57M2950; RoHS: TRUE; Mounting Technology: Surface Mount; ComponentLink1Description: Manufacturer URL; ComponentLink1URL: http://www.linear.com/; ComponentLink2Description: Datasheet; ComponentLink2URL: http://cds.linear.com/docs/en/datasheet/1241fa.pdf; ComponentLink3Description: Package Specification; ComponentLink3URL: http://cds.linear.com/docs/en/packaging/05081610_G_SO8.pdf
footprint LT-S8-8_N (SOIC, 8-Leads, Body 5x4mm, Pitch 1.27mm, IPC Medium Density)
footprint LT-S8-8_L (SOIC, 8-Leads, Body 5x4mm, Pitch 1.27mm, IPC High Density)
footprint LT-S8-8_M (SOIC, 8-Leads, Body 5x4mm, Pitch 1.27mm, IPC Low Density)
pins: 1 COMP "Compensation Pin. This pin is the output of the Error Amplifier and is made available for loop compensation. It can also be used to adjust the maximum value of the current sense clamp voltage to less than 1V. This pin can (See Datasheet)", 2 FB (in) "Voltage Feedback. This pin is the inverting input of the Error Amplifier. The output voltage is normally fed back to this pin through a resistive divider. The noninverting input of the Error Amplifier is internally committed (See Datasheet)", 3 ISENSE (in) "Current Sense. This is the input to the current sense comparator. The trip point of the comparator is set by, and is proportional to, the output voltage of the Error Amplifier.", 4 RT/CT "The oscillator frequency and the deadtime are set by connecting a resistor (RT) from VREF to RT/CT and a capacitor (CT) from RT/CT to GND. The rise time of the oscillator waveform is set by the RC time constant of RT and CT. (See Datasheet)", 5 GND (power) "Ground.", 6 OUT (out) "Current Output. This pin is the output of a high current totem pole output stage. It is capable of driving up to +/-1A of current into a capacitive load such as the gate of a MOSFET.", 7 VCC (power) "Supply Voltage. This pin is the positive supply of the control IC.", 8 VREF (out) "Reference. This is the reference output of the IC. The reference output is used to supply charging current to the external timing resistor RT. The reference provides biasing to a large portion of the internal circuitry, and (See Datasheet)"

## LT1241IS8#TR
designator U?
High Speed Current Mode Pulse Width Modulator, 8-pin SOIC (S8-8), -40 to 100 degC, Tape and Reel; Manufacturer: Linear Technology; PartNumber: LT1241IS8#TR; DatasheetVersion: Rev. A; PackageVersion: Rev. G, 03/2012; PackageReference: S8-8; PackageDescription: 8-Pin Plastic Small Outline (Narrow .150 Inch), Body 4.9 x 3.9 mm, Pitch 1.27 mm; Supplier 1: Digi-Key; Supplier Part Number 1: LT1241IS8#TR-ND; Packing: Tape and Reel; RoHS: FALSE; Mounting Technology: Surface Mount; ComponentLink1Description: Manufacturer URL; ComponentLink1URL: http://www.linear.com/; ComponentLink2Description: Datasheet; ComponentLink2URL: http://cds.linear.com/docs/en/datasheet/1241fa.pdf; ComponentLink3Description: Package Specification; ComponentLink3URL: http://cds.linear.com/docs/en/packaging/05081610_G_SO8.pdf
footprint LT-S8-8_N (SOIC, 8-Leads, Body 5x4mm, Pitch 1.27mm, IPC Medium Density)
footprint LT-S8-8_L (SOIC, 8-Leads, Body 5x4mm, Pitch 1.27mm, IPC High Density)
footprint LT-S8-8_M (SOIC, 8-Leads, Body 5x4mm, Pitch 1.27mm, IPC Low Density)
pins: 1 COMP "Compensation Pin. This pin is the output of the Error Amplifier and is made available for loop compensation. It can also be used to adjust the maximum value of the current sense clamp voltage to less than 1V. This pin can (See Datasheet)", 2 FB (in) "Voltage Feedback. This pin is the inverting input of the Error Amplifier. The output voltage is normally fed back to this pin through a resistive divider. The noninverting input of the Error Amplifier is internally committed (See Datasheet)", 3 ISENSE (in) "Current Sense. This is the input to the current sense comparator. The trip point of the comparator is set by, and is proportional to, the output voltage of the Error Amplifier.", 4 RT/CT "The oscillator frequency and the deadtime are set by connecting a resistor (RT) from VREF to RT/CT and a capacitor (CT) from RT/CT to GND. The rise time of the oscillator waveform is set by the RC time constant of RT and CT. (See Datasheet)", 5 GND (power) "Ground.", 6 OUT (out) "Current Output. This pin is the output of a high current totem pole output stage. It is capable of driving up to +/-1A of current into a capacitive load such as the gate of a MOSFET.", 7 VCC (power) "Supply Voltage. This pin is the positive supply of the control IC.", 8 VREF (out) "Reference. This is the reference output of the IC. The reference output is used to supply charging current to the external timing resistor RT. The reference provides biasing to a large portion of the internal circuitry, and (See Datasheet)"

## LT1241IS8#TRPBF
designator U?
High Speed Current Mode Pulse Width Modulator, 8-pin SOIC (S8-8), -40 to 100 degC, Pb-Free, Tape and Reel; Manufacturer: Linear Technology; PartNumber: LT1241IS8#TRPBF; DatasheetVersion: Rev. A; PackageVersion: Rev. G, 03/2012; PackageReference: S8-8; PackageDescription: 8-Pin Plastic Small Outline (Narrow .150 Inch), Body 4.9 x 3.9 mm, Pitch 1.27 mm; Supplier 1: Digi-Key; Supplier Part Number 1: LT1241IS8#TRPBF-ND; Packing: Tape and Reel; RoHS: TRUE; Mounting Technology: Surface Mount; ComponentLink1Description: Manufacturer URL; ComponentLink1URL: http://www.linear.com/; ComponentLink2Description: Datasheet; ComponentLink2URL: http://cds.linear.com/docs/en/datasheet/1241fa.pdf; ComponentLink3Description: Package Specification; ComponentLink3URL: http://cds.linear.com/docs/en/packaging/05081610_G_SO8.pdf
footprint LT-S8-8_N (SOIC, 8-Leads, Body 5x4mm, Pitch 1.27mm, IPC Medium Density)
footprint LT-S8-8_L (SOIC, 8-Leads, Body 5x4mm, Pitch 1.27mm, IPC High Density)
footprint LT-S8-8_M (SOIC, 8-Leads, Body 5x4mm, Pitch 1.27mm, IPC Low Density)
pins: 1 COMP "Compensation Pin. This pin is the output of the Error Amplifier and is made available for loop compensation. It can also be used to adjust the maximum value of the current sense clamp voltage to less than 1V. This pin can (See Datasheet)", 2 FB (in) "Voltage Feedback. This pin is the inverting input of the Error Amplifier. The output voltage is normally fed back to this pin through a resistive divider. The noninverting input of the Error Amplifier is internally committed (See Datasheet)", 3 ISENSE (in) "Current Sense. This is the input to the current sense comparator. The trip point of the comparator is set by, and is proportional to, the output voltage of the Error Amplifier.", 4 RT/CT "The oscillator frequency and the deadtime are set by connecting a resistor (RT) from VREF to RT/CT and a capacitor (CT) from RT/CT to GND. The rise time of the oscillator waveform is set by the RC time constant of RT and CT. (See Datasheet)", 5 GND (power) "Ground.", 6 OUT (out) "Current Output. This pin is the output of a high current totem pole output stage. It is capable of driving up to +/-1A of current into a capacitive load such as the gate of a MOSFET.", 7 VCC (power) "Supply Voltage. This pin is the positive supply of the control IC.", 8 VREF (out) "Reference. This is the reference output of the IC. The reference output is used to supply charging current to the external timing resistor RT. The reference provides biasing to a large portion of the internal circuitry, and (See Datasheet)"

## LT1242CN8
designator U?
High Speed Current Mode Pulse Width Modulator, 8-pin DIP (N8-8), 0 to 100 degC; Manufacturer: Linear Technology; PartNumber: LT1242CN8; DatasheetVersion: Rev. A; PackageVersion: Rev. I, 07/2011; PackageReference: N8-8; PackageDescription: 8-Pin PDIP, Body 10.16 x 6.48 mm, Pitch 2.54 mm; Supplier 1: Digi-Key; Supplier Part Number 1: LT1242CN8-ND; RoHS: FALSE; Mounting Technology: Through Hole; ComponentLink1Description: Manufacturer URL; ComponentLink1URL: http://www.linear.com/; ComponentLink2Description: Datasheet; ComponentLink2URL: http://cds.linear.com/docs/en/datasheet/1241fa.pdf; ComponentLink3Description: Package Specification; ComponentLink3URL: http://www.linear.com/docs/en/packaging/05081510_I_N8.pdf
footprint LT-N8-8 (DIP, 8-Leads, Body 10.15x6.85mm, Pitch 2.54mm)
pins: 1 COMP "Compensation Pin. This pin is the output of the Error Amplifier and is made available for loop compensation. It can also be used to adjust the maximum value of the current sense clamp voltage to less than 1V. This pin can (See Datasheet)", 2 FB (in) "Voltage Feedback. This pin is the inverting input of the Error Amplifier. The output voltage is normally fed back to this pin through a resistive divider. The noninverting input of the Error Amplifier is internally committed (See Datasheet)", 3 ISENSE (in) "Current Sense. This is the input to the current sense comparator. The trip point of the comparator is set by, and is proportional to, the output voltage of the Error Amplifier.", 4 RT/CT "The oscillator frequency and the deadtime are set by connecting a resistor (RT) from VREF to RT/CT and a capacitor (CT) from RT/CT to GND. The rise time of the oscillator waveform is set by the RC time constant of RT and CT. (See Datasheet)", 5 GND (power) "Ground.", 6 OUT (out) "Current Output. This pin is the output of a high current totem pole output stage. It is capable of driving up to +/-1A of current into a capacitive load such as the gate of a MOSFET.", 7 VCC (power) "Supply Voltage. This pin is the positive supply of the control IC.", 8 VREF (out) "Reference. This is the reference output of the IC. The reference output is used to supply charging current to the external timing resistor RT. The reference provides biasing to a large portion of the internal circuitry, and (See Datasheet)"

## LT1242CN8#PBF
designator U?
High Speed Current Mode Pulse Width Modulator, 8-pin DIP (N8-8), 0 to 100 degC, Pb-Free; Manufacturer: Linear Technology; PartNumber: LT1242CN8#PBF; DatasheetVersion: Rev. A; PackageVersion: Rev. I, 07/2011; PackageReference: N8-8; PackageDescription: 8-Pin PDIP, Body 10.16 x 6.48 mm, Pitch 2.54 mm; Supplier 1: Digi-Key; Supplier Part Number 1: LT1242CN8#PBF-ND; Supplier 2: Farnell; Supplier Part Number 2: 1273692; Supplier 3: Newark; Supplier Part Number 3: 57M2954; RoHS: TRUE; Mounting Technology: Through Hole; ComponentLink1Description: Manufacturer URL; ComponentLink1URL: http://www.linear.com/; ComponentLink2Description: Datasheet; ComponentLink2URL: http://cds.linear.com/docs/en/datasheet/1241fa.pdf; ComponentLink3Description: Package Specification; ComponentLink3URL: http://www.linear.com/docs/en/packaging/05081510_I_N8.pdf
footprint LT-N8-8 (DIP, 8-Leads, Body 10.15x6.85mm, Pitch 2.54mm)
pins: 1 COMP "Compensation Pin. This pin is the output of the Error Amplifier and is made available for loop compensation. It can also be used to adjust the maximum value of the current sense clamp voltage to less than 1V. This pin can (See Datasheet)", 2 FB (in) "Voltage Feedback. This pin is the inverting input of the Error Amplifier. The output voltage is normally fed back to this pin through a resistive divider. The noninverting input of the Error Amplifier is internally committed (See Datasheet)", 3 ISENSE (in) "Current Sense. This is the input to the current sense comparator. The trip point of the comparator is set by, and is proportional to, the output voltage of the Error Amplifier.", 4 RT/CT "The oscillator frequency and the deadtime are set by connecting a resistor (RT) from VREF to RT/CT and a capacitor (CT) from RT/CT to GND. The rise time of the oscillator waveform is set by the RC time constant of RT and CT. (See Datasheet)", 5 GND (power) "Ground.", 6 OUT (out) "Current Output. This pin is the output of a high current totem pole output stage. It is capable of driving up to +/-1A of current into a capacitive load such as the gate of a MOSFET.", 7 VCC (power) "Supply Voltage. This pin is the positive supply of the control IC.", 8 VREF (out) "Reference. This is the reference output of the IC. The reference output is used to supply charging current to the external timing resistor RT. The reference provides biasing to a large portion of the internal circuitry, and (See Datasheet)"